# EAGLE library part AT93C46B (library F030NG)
AT93C46B - Atmel EEPROM in PDIP-8 package.
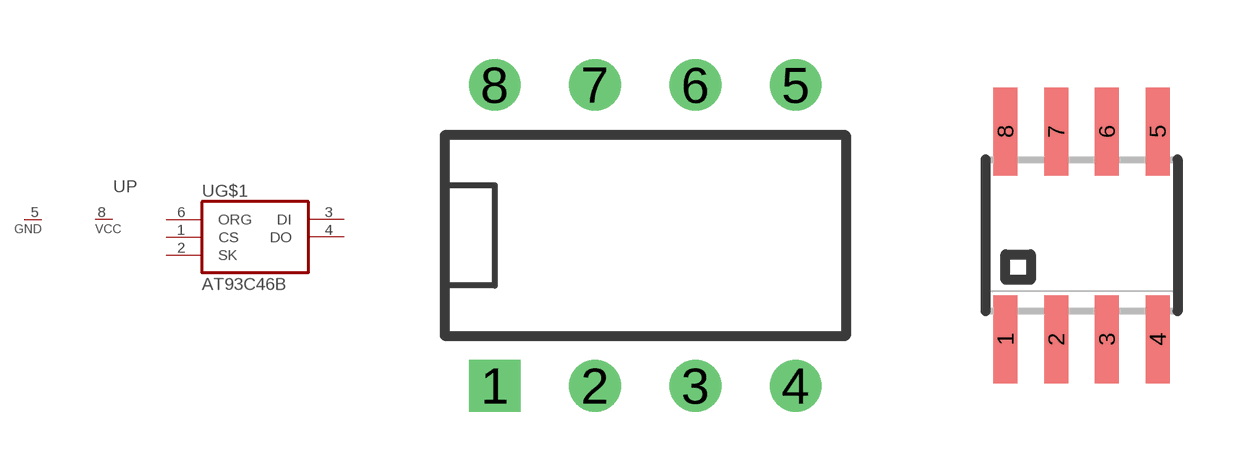
[diagram p58: symbol with the pads of DIL08; footprints DIL08, SO08]

Designator prefix U; gates G$1=AT93C46B P=1VCC_1GND

## AT93C46BP  [DIL08]
1  G$1:CS  in
2  G$1:SK  in
3  G$1:DI  in
4  G$1:DO  out
5  P:GND  pwr
6  G$1:ORG  in
8  P:VCC  pwr

## AT93C46BD  [SO08]
Pads as for DIL08

## Footprint DIL08 (pad centres in mm)
Dual In Line Package
drill 0.8 square: 1 -3.81,-3.81
drill 0.8: 2 -1.27,-3.81; 3 1.27,-3.81; 4 3.81,-3.81; 5 3.81,3.81; 6 1.27,3.81; 7 -1.27,3.81; 8 -3.81,3.81

## Footprint SO08 (pad centres in mm)
SMALL OUTLINE INTEGRATED CIRCUIT body 3.9 mm/JEDEC MS-012AA
smd 0.6 x 2.2: 1 -1.905,-2.6; 2 -0.635,-2.6; 3 0.635,-2.6; 4 1.905,-2.6; 5 1.905,2.6; 6 0.635,2.6; 7 -0.635,2.6; 8 -1.905,2.6